# EAGLE library part MN3007 (library mb3_integrated circuits)
1,024 stage BBD Can also be used for the BL3207 and v3207. Power requirements are different for these devices, so be sure you understand how to hook them up properly. MN3007: http://smallbear-electronics.mybigcommerce.com/ic-mn3007/ v3207: http://smallbear-electronics.mybigcommerce.com/ic-v3207d/ BL3207: http://smallbear-electronics.mybigcommerce.com/ic-bl3207/
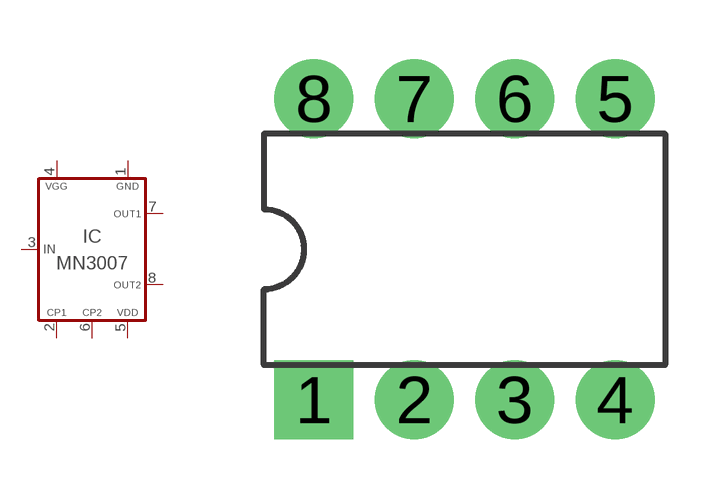
[diagram p21: symbol with the pads of DIP08; footprint DIP08]

Designator prefix IC

## MN3007  [DIP08]
1  P$1
2  P$2
3  P$3
4  P$4
5  P$5
6  P$6
7  P$7
8  P$8

## Footprint DIP08 (pad centres in mm)
Dual In Line Package
drill 1 pad 2 square: 1 -3.81,-3.81
drill 1 pad 2: 2 -1.27,-3.81; 3 1.27,-3.81; 4 3.81,-3.81; 5 3.81,3.81; 6 1.27,3.81; 7 -1.27,3.81; 8 -3.81,3.81